# EAGLE library part SIM800 (library SIM800 GPRS Module)
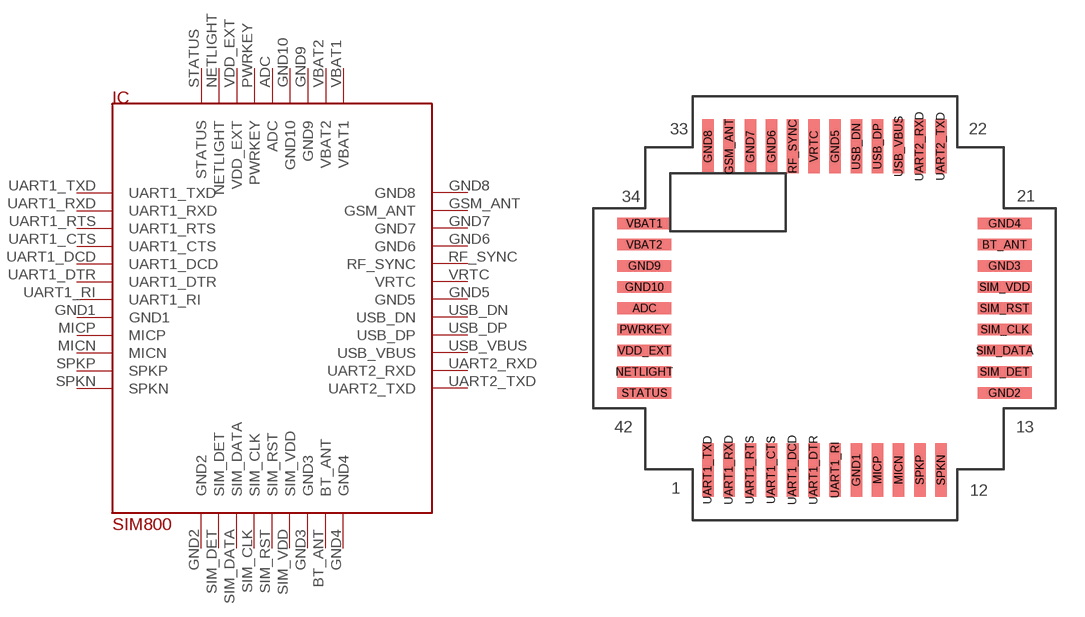
[diagram p0: symbol with the pads of SIM800C; footprint SIM800C]

Designator prefix IC

## SIM800  [SIM800C]
ADC  ADC
BT_ANT  BT_ANT
GND1  GND1
GND2  GND2
GND3  GND3
GND4  GND4
GND5  GND5
GND6  GND6
GND7  GND7
GND8  GND8
GND9  GND9
GND10  GND10
GSM_ANT  GSM_ANT  in
MICN  MICN
MICP  MICP
NETLIGHT  NETLIGHT  out
PWRKEY  PWRKEY
RF_SYNC  RF_SYNC
SIM_CLK  SIM_CLK
SIM_DATA  SIM_DATA
SIM_DET  SIM_DET
SIM_RST  SIM_RST
SIM_VDD  SIM_VDD  pwr
SPKN  SPKN
SPKP  SPKP
STATUS  STATUS  out
UART1_CTS  UART1_CTS
UART1_DCD  UART1_DCD
UART1_DTR  UART1_DTR
UART1_RI  UART1_RI
UART1_RTS  UART1_RTS
UART1_RXD  UART1_RXD  in
UART1_TXD  UART1_TXD  out
UART2_RXD  UART2_RXD  nc
UART2_TXD  UART2_TXD  nc
USB_DN  USB_DN
USB_DP  USB_DP
USB_VBUS  USB_VBUS
VBAT1  VBAT1  pwr
VBAT2  VBAT2  pwr
VDD_EXT  VDD_EXT
VRTC  VRTC

## Footprint SIM800C (pad centres in mm)
smd 2.8 x 0.6: ADC -9.35,0; BT_ANT 9.35,3.3; GND2 9.35,-4.4; GND3 9.35,2.2; GND4 9.35,4.4; GND9 -9.35,2.2; GND10 -9.35,1.1; NETLIGHT -9.35,-3.3; PWRKEY -9.35,-1.1; SIM_CLK 9.35,-1.1; SIM_DATA 9.35,-2.2; SIM_DET 9.35,-3.3; SIM_RST 9.35,0; SIM_VDD 9.35,1.1; STATUS -9.35,-4.4; VBAT1 -9.35,4.4; VBAT2 -9.35,3.3; VDD_EXT -9.35,-2.2
smd 0.6 x 2.8: GND1 1.65,-8.4; GND5 0.55,8.4; GND6 -2.75,8.4; GND7 -3.85,8.4; GND8 -6.05,8.4; GSM_ANT -4.95,8.4; MICN 3.85,-8.4; MICP 2.75,-8.4; RF_SYNC -1.65,8.4; SPKN 6.05,-8.4; SPKP 4.95,-8.4; UART1_CTS -2.75,-8.4; UART1_DCD -1.65,-8.4; UART1_DTR -0.55,-8.4; UART1_RI 0.55,-8.4; UART1_RTS -3.85,-8.4; UART1_RXD -4.95,-8.4; UART1_TXD -6.05,-8.4; UART2_RXD 4.95,8.4; UART2_TXD 6.05,8.4; USB_DN 1.65,8.4; USB_DP 2.75,8.4; USB_VBUS 3.85,8.4; VRTC -0.55,8.4